# EAGLE library part GTL2003 (library nxp_martin)
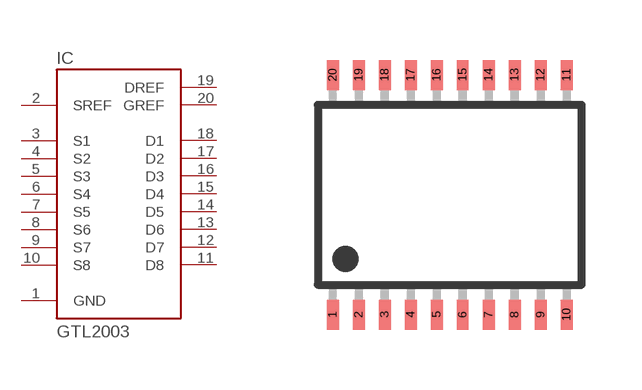
[diagram p0: symbol with the pads of TSSOP20; footprint TSSOP20]

Designator prefix IC

## GTL2003PW  [TSSOP20]
1  GND
2  SREF
3  S1
4  S2
5  S3
6  S4
7  S5
8  S6
9  S7
10  S8
11  D8
12  D7
13  D6
14  D5
15  D4
16  D3
17  D2
18  D1
19  DREF
20  GREF

## Footprint TSSOP20 (pad centres in mm)
Plastic Small-Outline Package
smd 0.3 x 0.75: 1 -2.925,-3; 2 -2.275,-3; 3 -1.625,-3; 4 -0.975,-3; 5 -0.325,-3; 6 0.325,-3; 7 0.975,-3; 8 1.625,-3; 9 2.275,-3; 10 2.925,-3; 11 2.925,3; 12 2.275,3; 13 1.625,3; 14 0.975,3; 15 0.325,3; 16 -0.325,3; 17 -0.975,3; 18 -1.625,3; 19 -2.275,3; 20 -2.925,3